# Altium footprint library Nupakachi.PcbLib: 6 footprints
Each footprint in its own frame and in the unit in brackets; x right, y up, seen from the top. Pads: shape width x height; smd on the part's side, far side on the other; paste and mask are expansions set on the pad; w line width, h text height; cw(c..) or ccw(c..) is an arc to the next point about the centre after c.
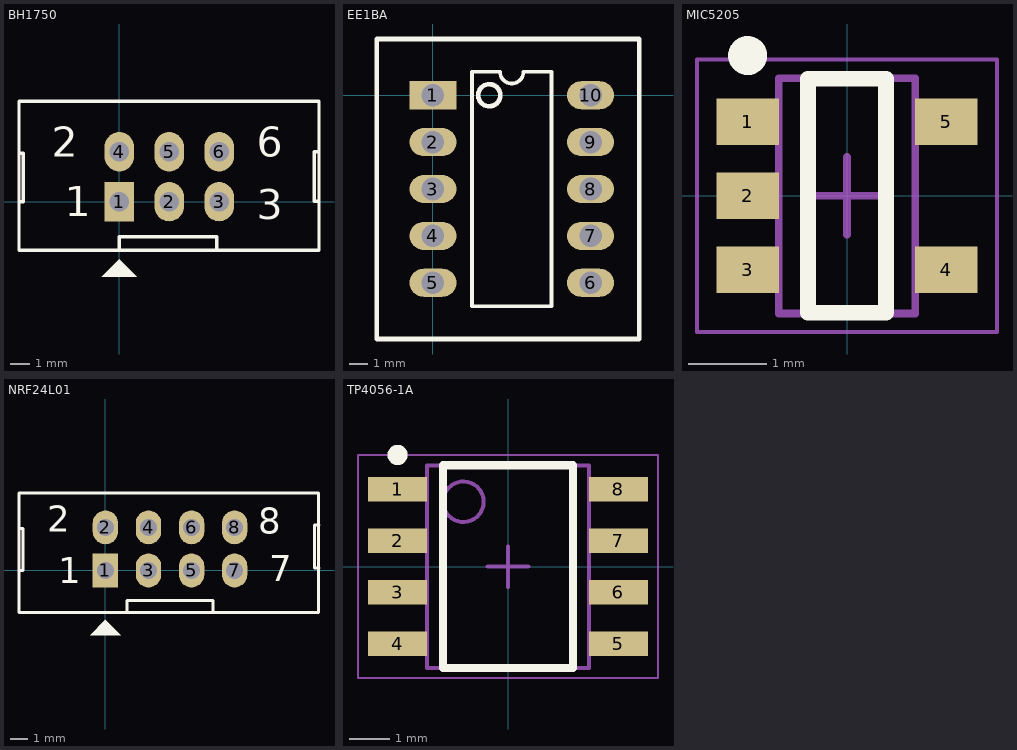
[diagram p0: the footprints below, top view; thin cyan lines are the x and y axes]

## BH1750 [mm] "BH1750 3x2,20 pin, connecter"
height 7.62
pads (6):
  rect 1.5x2 hole 1: 1(0,0)
  oval 1.5x2 hole 1: 2(2.54,0) 3(5.08,0) 4(0,2.54) 5(2.54,2.54) 6(5.08,2.54)
Top Overlay:
  region: 0,-2.921 -0.889,-3.81 0.889,-3.81
  lines w0.178: -5.1,-0.025 -5.075,0 -4.875,0 -4.875,2.475 -5.1,2.475 ; 0,-2.438 0,-1.778 4.953,-1.778 4.953,-2.464 ; 10.16,0.025 9.906,0.025 9.906,2.55 10.16,2.55 ; -5.1,5.1 -5.1,-2.475 10.16,-2.475 10.16,5.1 ; -5.1,5.1 10.16,5.1 ; -5.1,5.1 10.16,5.1
  text "1" at -2.775,-0.75 h1.52
  text "2" at -3.429,2.286 h1.52
  text "3" at 6.985,-0.889 h1.52
  text "6" at 6.985,2.286 h1.52

## DPAK228P970X238-3N [mm] "D-PAK, 3-Pads, Body 6.20x6.72mm (max), IPC Medium Density"
height 2.38

## EE1BA [mm] "DIP10"
pads (10):
  rect 2.5x1.5 hole 1.2: 1(0,0)
  oval 2.5x1.5 hole 1.2: 2(0,-2.5) 3(0,-5) 4(0,-7.5) 5(0,-10) 6(8.4,-10) 7(8.4,-7.5) 8(8.4,-5) 9(8.4,-2.5) 10(8.4,0)
Top Overlay:
  circle w0.254: c3,0 r0.591
  lines w0.2: 2.085,-11.25 2.085,1.25 3.575,1.25 ccw(c4.2,1.25) 4.825,1.25 6.315,1.25 6.315,-11.25 2.085,-11.25
  lines w0.254: -3,-13 -3,3 11,3 11,-13 -3,-13

## MIC5205 [mm] "MIC5205, 5-Leads, Body 2.91x2.45mm, Pitch 0.95mm, IPC Medium Density"
height 1.45
pads (5):
  rect 0.8x0.6 smd: 1(-1.275,0.95) 2(-1.275,0) 3(-1.275,-0.95) 4(1.275,-0.95) 5(1.275,0.95)
Top Overlay:
  circle w0.25: c-1.275,1.8 r0.125
  lines w0.2: -0.5,-1.5 0.5,-1.5 0.5,1.5 -0.5,1.5 -0.5,-1.5
Mechanical 13:
  lines w0.1: -0.875,-1.51 -0.875,1.51 0.875,1.51 0.875,-1.51 -0.875,-1.51
Mechanical 15:
  lines w0.05: -1.925,-1.75 -1.925,1.75 1.925,1.75 1.925,-1.75 -1.925,-1.75
  lines w0.1: -0.5,0 0.5,0 ; 0,-0.5 0,0.5
3D body: height 1.45, standoff 0.15, extent -0.875,-1.51 0.875,1.51

## NRF24L01 [mm] "NRF24L01 4x2 pin, connector"
height 7.62
pads (8):
  rect 1.5x2 hole 1: 1(0,0)
  oval 1.5x2 hole 1: 2(0,2.54) 3(2.54,0) 4(2.54,2.54) 5(5.08,0) 6(5.08,2.54) 7(7.62,0) 8(7.62,2.54)
Top Overlay:
  region: 0,-2.921 -0.889,-3.81 0.889,-3.81
  lines w0.178: -5.1,-0.025 -5.075,0 -4.875,0 -4.875,2.475 -5.1,2.475 ; 1.27,-2.438 1.27,-1.778 6.35,-1.778 6.35,-2.464 ; 12.598,0.152 12.344,0.152 12.344,2.677 12.598,2.677 ; -5.1,-2.475 -5.1,4.572 12.573,4.572 12.573,-2.475 -5.1,-2.475
  text "1" at -2.775,-0.75 h1.52
  text "2" at -3.429,2.286 h1.52
  text "7" at 9.652,-0.635 h1.52
  text "8" at 9.017,2.159 h1.52

## TP4056-1A [mm] "TP4056-1A, 8-Leads, Body 4.90x3.90mm, Pitch 1.27mm, IPC Medium Density"
height 1.75
pads (8):
  rect 1.45x0.6 smd: 1(-2.725,1.905) 2(-2.725,0.635) 3(-2.725,-0.635) 4(-2.725,-1.905) 5(2.725,-1.905) 6(2.725,-0.635) 7(2.725,0.635) 8(2.725,1.905)
Top Overlay:
  circle w0.25: c-2.725,2.755 r0.125
  lines w0.2: -1.6,-2.5 1.6,-2.5 1.6,2.5 -1.6,2.5 -1.6,-2.5
Mechanical 13:
  circle w0.1: c-1.1,1.6 r0.5
  lines w0.1: -2,-2.5 2,-2.5 2,2.5 -2,2.5 -2,-2.5
Mechanical 15:
  lines w0.05: -3.7,-2.75 3.7,-2.75 3.7,2.75 -3.7,2.75 -3.7,-2.75
  lines w0.1: -0.5,0 0.5,0 ; 0,-0.5 0,0.5
3D body: height 1.75, standoff 0.25, extent -2,-2.5 2,2.5